# EAGLE library part DMC20261 (library display-lcd)
LCD DISPLAY Optrex, 20 characters x 2 Lines
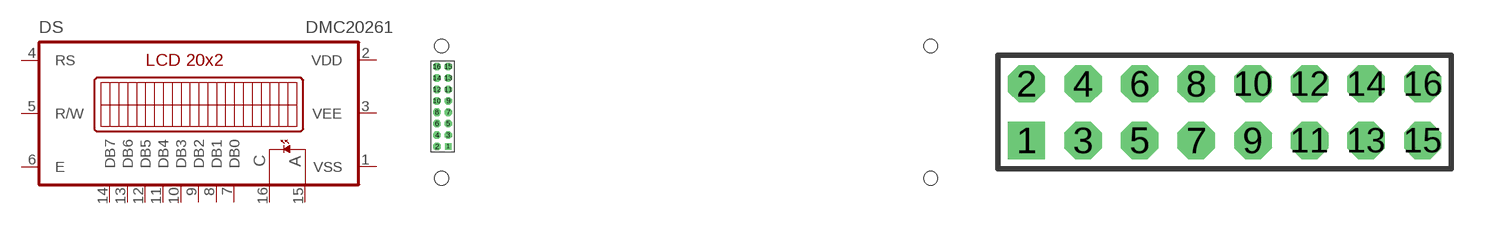
[diagram p10: symbol with the pads of DMC20261; footprints DMC20261, DMC20262_HDR]

Designator prefix DS

## DMC20261  [DMC20261]
1  VSS  pwr
2  VDD  pwr
3  VEE  pwr
4  RS  in
5  R/W  in
6  E  in
7  DB0  pas
8  DB1  pas
9  DB2  pas
10  DB3  pas
11  DB4  pas
12  DB5  pas
13  DB6  pas
14  DB7  pas
15  A  pas
16  C  pas

## DMC20261-HDR  [DMC20262_HDR]
Pads as for DMC20261

## DMC20261-AWH16  [DMC20262_AHW16]
Pads as for DMC20261

## Footprint DMC20261 (pad centres in mm)
LCD DISPLAY Optrex, 20 characters x 2 Lines PCB Socket Connector Header!
drill 0.914 pad 1.422 square: 1 2.54,-7.62
drill 0.914 pad 1.676 octagon: 2 0,-7.62; 3 2.54,-5.08; 4 0,-5.08; 5 2.54,-2.54; 6 0,-2.54; 7 2.54,0; 8 0,0; 9 2.54,2.54; 10 0,2.54; 11 2.54,5.08; 12 0,5.08; 13 2.54,7.62; 14 0,7.62; 15 2.54,10.16; 16 0,10.16
hole 3.048 at 1.039,14.683
hole 3.048 at 1.039,-14.635
hole 3.048 at 109.674,-14.635
hole 3.048 at 109.674,14.682

## Footprint DMC20262_HDR (pad centres in mm)
LCD DISPLAY Optrex, 20 characters x 2 Lines Ribbon Cable Connector Header!
drill 0.914 pad 1.676 square: 1 -8.89,-1.27
drill 0.914 pad 1.676 octagon: 2 -8.89,1.27; 3 -6.35,-1.27; 4 -6.35,1.27; 5 -3.81,-1.27; 6 -3.81,1.27; 7 -1.27,-1.27; 8 -1.27,1.27; 9 1.27,-1.27; 10 1.27,1.27; 11 3.81,-1.27; 12 3.81,1.27; 13 6.35,-1.27; 14 6.35,1.27; 15 8.89,-1.27; 16 8.89,1.27

## Footprint DMC20262_AHW16 (pad centres in mm)
HEADER - 0.1" Assmann AWH16 vertical, latching
drill 1.016 square: 1 -8.89,-1.27
drill 1.016 octagon: 2 -8.89,1.27; 3 -6.35,-1.27; 4 -6.35,1.27; 5 -3.81,-1.27; 6 -3.81,1.27; 7 -1.27,-1.27; 8 -1.27,1.27; 9 1.27,-1.27; 10 1.27,1.27; 11 3.81,-1.27; 12 3.81,1.27; 13 6.35,-1.27; 14 6.35,1.27; 15 8.89,-1.27; 16 8.89,1.27